# EAGLE library part AMP-1241050-5 (library jason-test)
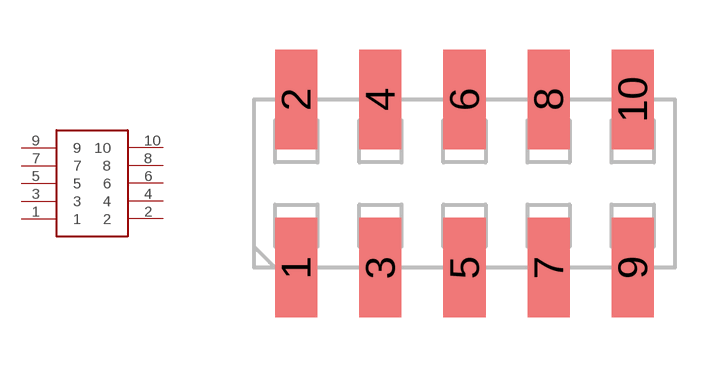
[diagram p27: symbol with the pads of AMP-1241050-5; footprint AMP-1241050-5]

Designator prefix -

## AMP-1241050-5  [AMP-1241050-5]
1  1
2  2
3  3
4  4
5  5
6  6
7  7
8  8
9  9
10  10

## Footprint AMP-1241050-5 (pad centres in mm)
smd 1.27 x 3: 1 -5.08,-2.54; 2 -5.08,2.54; 3 -2.54,-2.54; 4 -2.54,2.54; 5 0,-2.54; 6 0,2.54; 7 2.54,-2.54; 8 2.54,2.54; 9 5.08,-2.54; 10 5.08,2.54